# EAGLE library part STCS1PHR (library boat_light)
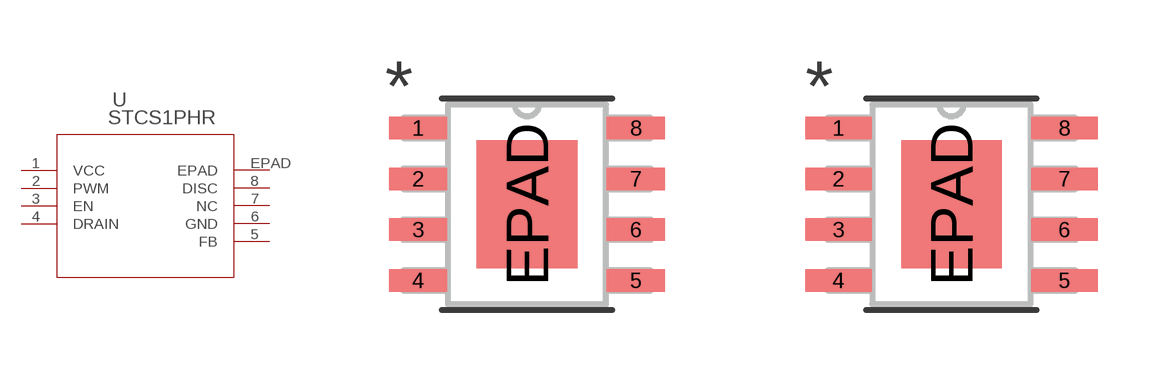
[diagram p2: symbol with the pads of POWERSO-8_STM; footprints POWERSO-8_STM, POWERSO-8_STM-M]

Designator prefix U

## STCS1PHR (COPYRIGHT: Copyright (C) 2022 Ultra Librarian. All rights reserved.; DIGI-KEY_PART_NUMBER_1: 497-5961-2-ND; DIGI-KEY_PART_NUMBER_2: 497-5961-1-ND; DIGI-KEY_PART_NUMBER_3: 497-5961-6-ND; DIGI-KEY_PART_NUMBER_4: 1026-STCS1PHR-CHP; MANUFACTURER_PART_NUMBER: STCS1PHR; MFR_NAME: STMicroelectronics)  [POWERSO-8_STM]
1  VCC  pwr
2  PWM  in
3  EN  in
4  DRAIN  out
5  FB  in
6  GND  pas
7  NC  nc
8  DISC  out
EPAD  EPAD  pas

## STCS1PHRPOWERSO-8_STM-M (COPYRIGHT: Copyright (C) 2022 Ultra Librarian. All rights reserved.; DIGI-KEY_PART_NUMBER_1: 497-5961-2-ND; DIGI-KEY_PART_NUMBER_2: 497-5961-1-ND; DIGI-KEY_PART_NUMBER_3: 497-5961-6-ND; DIGI-KEY_PART_NUMBER_4: 1026-STCS1PHR-CHP; MANUFACTURER_PART_NUMBER: STCS1PHR; MFR_NAME: STMicroelectronics)  [POWERSO-8_STM-M]
Pads as for POWERSO-8_STM

## STCS1PHRPOWERSO-8_STM-L (COPYRIGHT: Copyright (C) 2022 Ultra Librarian. All rights reserved.; DIGI-KEY_PART_NUMBER_1: 497-5961-2-ND; DIGI-KEY_PART_NUMBER_2: 497-5961-1-ND; DIGI-KEY_PART_NUMBER_3: 497-5961-6-ND; DIGI-KEY_PART_NUMBER_4: 1026-STCS1PHR-CHP; MANUFACTURER_PART_NUMBER: STCS1PHR; MFR_NAME: STMicroelectronics)  [POWERSO-8_STM-L]
Pads as for POWERSO-8_STM

## Footprint POWERSO-8_STM (pad centres in mm)
smd 1.46 x 0.559: 1 -2.724,1.905; 2 -2.724,0.635; 3 -2.724,-0.635; 4 -2.724,-1.905; 5 2.724,-1.905; 6 2.724,-0.635; 7 2.724,0.635; 8 2.724,1.905
smd 2.515 x 3.2: EPAD 0,0

## Footprint POWERSO-8_STM-M (pad centres in mm)
smd 1.664 x 0.559: 1 -2.826,1.905; 2 -2.826,0.635; 3 -2.826,-0.635; 4 -2.826,-1.905; 5 2.826,-1.905; 6 2.826,-0.635; 7 2.826,0.635; 8 2.826,1.905
smd 2.515 x 3.2: EPAD 0,0

## Footprint POWERSO-8_STM-L (pad centres in mm)
smd 1.257 x 0.508: 1 -2.623,1.905; 2 -2.623,0.635; 3 -2.623,-0.635; 4 -2.623,-1.905; 5 2.623,-1.905; 6 2.623,-0.635; 7 2.623,0.635; 8 2.623,1.905
smd 2.515 x 3.2: EPAD 0,0